# EAGLE library part SPEAKJET (library magnevation-speakjet)
MAGNEVATION SPEAKJET 18-DIP Package. Source: http://www.sparkfun.com/datasheets/Components/General/speakjet-usermanual.pdf
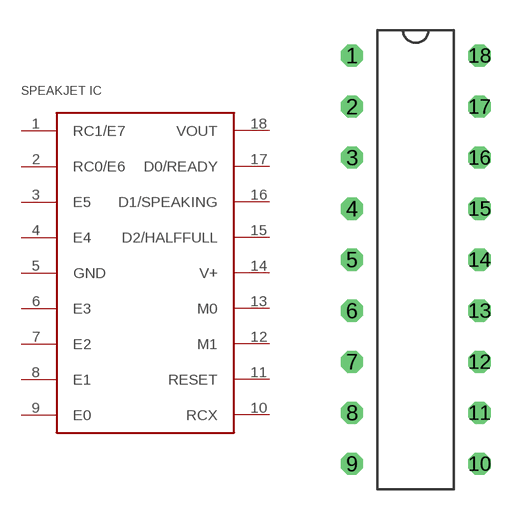
[diagram p0: symbol with the pads of DIP18; footprint DIP18]

Designator prefix -

## SPEAKJET  [DIP18]
1  RC1/E7
2  RC0/E6
3  E5
4  E4
5  GND
6  E3
7  E2
8  E1
9  E0
10  RCX
11  RESET
12  M1
13  M0
14  V+
15  D2/HALFFULL
16  D1/SPEAKING
17  D0/READY
18  VOUT

## Footprint DIP18 (pad centres in mm)
Magnevation SpeakJet Package - 18 DIP Package. Source: http://www.sparkfun.com/datasheets/Components/General/speakjet-usermanual.pdf
drill 0.6 octagon: 1 -2.54,10.16; 2 -2.54,7.62; 3 -2.54,5.08; 4 -2.54,2.54; 5 -2.54,0; 6 -2.54,-2.54; 7 -2.54,-5.08; 8 -2.54,-7.62; 9 -2.54,-10.16; 10 3.81,-10.16; 11 3.81,-7.62; 12 3.81,-5.08; 13 3.81,-2.54; 14 3.81,0; 15 3.81,2.54; 16 3.81,5.08; 17 3.81,7.62; 18 3.81,10.16